# Altium footprint library myConnectors.PcbLib: 58 footprints (part 3 of 4)
Each footprint in its own frame and in the unit in brackets; x right, y up, seen from the top. Pads: shape width x height; smd on the part's side, far side on the other; paste and mask are expansions set on the pad; w line width, h text height; cw(c..) or ccw(c..) is an arc to the next point about the centre after c.
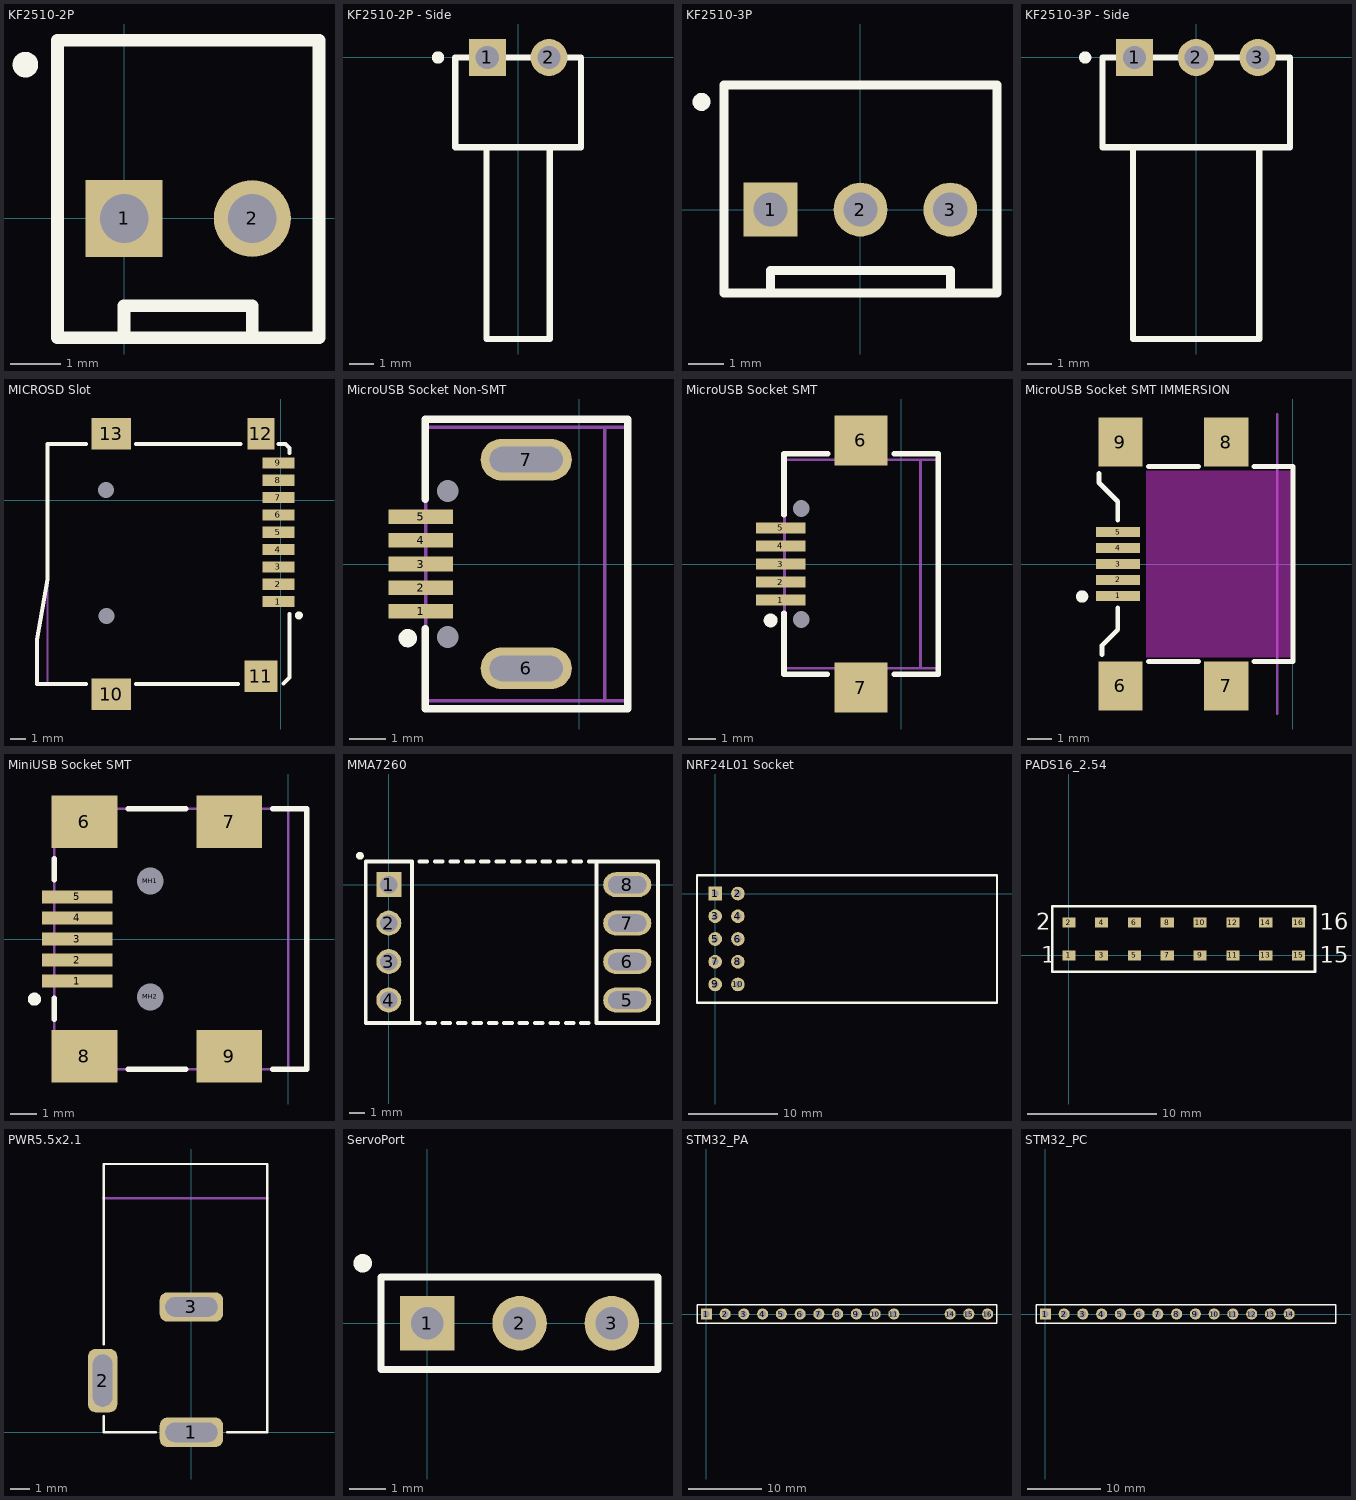
[diagram p2: the footprints below, top view; thin cyan lines are the x and y axes]

## KF2510-2P [mil]
height 470
pads (2):
  rect 60x60 hole 38: 1(0,0)
  round 60 hole 38: 2(100,0)
Top Overlay:
  circle w10: c-77,120 r5
  lines w10: 0,-93 0,-68 100,-68 100,-93 ; -52,-93 152,-93 152,139 -52,139 -52,-93
3D body: height 470, standoff 0, extent -54,-93 152,141

## KF2510-2P - Side [mil]
height 470
pads (2):
  rect 60x60 hole 38: 1(-50,0)
  round 60 hole 38: 2(50,0)
Top Overlay:
  circle w10: c-130,0 r5
  lines w10: -51.18,-145.7 -51.18,-456.7 51.18,-456.7 51.18,-145.7 ; -102,-145.7 102,-145.7 102,0 -102,0 -102,-145.7
3D body: height 470, standoff 0, extent -104.5,-456.7 102,0

## KF2510-3P [mil]
height 470
pads (3):
  rect 60x60 hole 38: 1(-100,0)
  round 60 hole 38: 2(0,0) 3(100,0)
Top Overlay:
  circle w10: c-177,120 r5
  lines w10: -100,-93 -100,-68 100,-68 100,-93 ; -152,-93 -152,139 152,139 152,-93 -152,-93
3D body: height 470, standoff 0, extent -154,-95 155,141

## KF2510-3P - Side [mil]
height 470
pads (3):
  rect 60x60 hole 38: 1(-100,0)
  round 60 hole 38: 2(0,0) 3(100,0)
Top Overlay:
  circle w10: c-180,0 r5
  lines w10: -102.36,-145.7 -102.36,-456.7 102.36,-456.7 102.36,-145.7 ; -152,-145.7 152,-145.7 152,0 -152,0 -152,-145.7
3D body: height 470, standoff 0, extent -154.5,-456.7 154.5,0

## MICROSD Slot [mil] "MicroSD Card Socket"
height 67
pads (15):
  rect 80x28 smd: 1(-6,-253.47) 2(-6,-210.16) 3(-6,-166.85) 4(-6,-123.55) 5(-6,-80.24) 6(-6,-36.93) 7(-6,6.38) 8(-6,49.68) 9(-6,92.99)
  rect 98.43x78.74 smd: 10(-424.01,-485) 13(-424.01,166)
  rect 83x78.74 smd: 11(-50,-439.8)
  rect 67x78.74 smd: 12(-50,166)
  round 23.62 hole 40 unplated: MH1(-436.89,25) MH2(-436,-289.96)
Top Overlay:
  circle w9.84: c45,-288 r4.92
  lines w10: -487,-459 -609,-459 -609,-347.81 -583,-198 -583,140 -487,140 ; -362,-459 -107,-459 ; -362,140 -101,140 ; -6,140 3,140 11,140 21,130 21,118 ; 6,-458 21,-443 21,-284
Mechanical 13:
  lines w3.94: -583,-459 -583,140.88
  text "PCB Edge" at -576,-375 h9.84
3D body: height 67, standoff 0, extent -611,-460 21,140

## MicroUSB Socket Non-SMT [mm] "Connector; USB2.0, Micro, SM; 5 Position; Right Angle"
height 2.4
pads (9):
  rect 1.778x0.4 smd: 1(-4.339,-1.3) 2(-4.339,-0.65) 3(-4.339,0) 4(-4.339,0.65) 5(-4.339,1.3)
  oval 2.5x1.143 hole 2 slot 0.7 at 90 deg: 6(-1.45,-2.86) 7(-1.45,2.86)
  round 0 hole 0.6 unplated: MH1(-3.6,2) MH2(-3.6,-2)
Top Overlay:
  circle w0.25: c-4.697,-2.032 r0.125
  lines w0.2: -4.216,-1.778 -4.216,-3.962 1.321,-3.962 ; -4.216,1.778 -4.216,3.962 1.321,3.962 ; 1.33,-3.962 1.33,3.962
Mechanical 13:
  lines w0.1: 0.7,-3.75 0.7,3.75 ; -4.2,-3.75 -4.2,3.75 1.33,3.75 1.33,-3.75 -4.2,-3.75
  text "PCB Edge" at 0.457,-3.607 h0.25
3D body: height 2.4, standoff 0, extent -4.191,-3.937 1.27,3.937

## MicroUSB Socket SMT [mm] "Connector; USB2.0, Micro, SM; 5 Position; Right Angle"
height 2.4
pads (9):
  rect 1.778x0.4 smd: 1(-4.339,-1.3) 2(-4.339,-0.65) 3(-4.339,0) 4(-4.339,0.65) 5(-4.339,1.3)
  rect 1.9x1.8 smd: 6(-1.45,4.45) 7(-1.45,-4.45)
  round 0 hole 0.6 unplated: MH1(-3.6,2) MH2(-3.6,-2)
Top Overlay:
  circle w0.25: c-4.697,-2.032 r0.125
  lines w0.2: -4.216,-1.778 -4.216,-3.962 -2.667,-3.962 ; -4.216,1.778 -4.216,3.962 -2.642,3.962 ; -0.254,-3.962 1.33,-3.962 1.33,3.962 -0.254,3.962
Mechanical 13:
  lines w0.1: 0.7,-3.75 0.7,3.75 ; -4.2,-3.75 1.33,-3.75 1.33,3.75 -4.2,3.75 -4.2,-3.75
  text "PCB Edge" at 0.457,-3.607 h0.25
3D body: height 2.4, standoff 0, extent -4.191,-3.937 1.27,3.937

## MicroUSB Socket SMT IMMERSION [mm] "Connector; USB2.0, Micro, SM; 5 Position; Right Angle"
height 2.4
pads (9):
  rect 1.778x0.4 smd: 1(-7.1,-1.3) 2(-7.1,-0.65) 3(-7.1,0) 4(-7.1,0.65) 5(-7.1,1.3)
  rect 1.8x2 smd: 6(-7,-4.953) 7(-2.7,-4.953) 8(-2.7,4.953) 9(-7,4.953)
Top Overlay:
  circle w0.25: c-8.558,-1.321 r0.125
  lines w0.2: -7.874,3.683 -7.874,3.302 -7.112,2.54 -7.112,1.778 ; -7.747,-3.683 -7.747,-3.302 -7.112,-2.667 -7.112,-1.778 ; -5.867,-3.962 -3.835,-3.962 ; -5.867,3.962 -3.835,3.962 ; -1.575,-3.962 0.009,-3.962 0.009,3.962 -1.575,3.962
Keep-Out Layer:
  rectangle: -5.971,-3.8 0,3.8
Mechanical 13:
  lines w0.1: -0.621,-6.096 -0.621,6.096 ; 0.009,-3.75 0.009,3.75
  text "PCB Edge" at -0.229,4.166 h0.25
  text "PCB Edge" at -0.229,-6.071 h0.25
3D body: height 2.4, standoff 0, extent -7.874,-3.937 0,3.937

## MiniUSB Socket SMT [mm] "Connector; USB2.0, Type B, SM; 5 Position; Right Angle"
height 3.9
pads (11):
  rect 2.667x0.5 smd: 1(-8.026,-1.6) 2(-8.026,-0.8) 3(-8.026,0) 4(-8.026,0.8) 5(-8.026,1.6)
  rect 2.5x2 smd: 6(-7.75,4.45) 7(-2.25,4.45) 8(-7.75,-4.45) 9(-2.25,-4.45)
  round 0.6 hole 1.016 unplated: MH1(-5.25,2.2) MH2(-5.25,-2.2)
Top Overlay:
  circle w0.25: c-9.652,-2.286 r0.125
  lines w0.2: -8.9,-3.05 -8.9,-2.25 ; -8.9,2.25 -8.9,3.05 ; -6.1,-4.95 -3.9,-4.95 ; -6.1,4.95 -3.9,4.95 ; -0.6,-4.95 0.7,-4.95 0.7,4.95 -0.6,4.95
Mechanical 1:
  lines w0.1: 0,-4.95 0,4.95
  text "PCB Edge" at 0.432,-4.036 h0.25
Mechanical 13:
  lines w0.1: -8.9,-4.95 0.7,-4.95 0.7,4.95 -8.9,4.95 -8.9,-4.95
3D body: height 3.9, standoff 0, extent -8.9,-4.95 0.7,4.95

## MMA7260 [mil]
pads (8):
  rect 65x65 hole 45: 1(0,0)
  round 65 hole 45: 2(0,-100) 3(0,-200) 4(0,-300)
  oval 125x65 hole 45 slot 100 at 0 deg: 5(620,-300) 6(620,-200) 7(620,-100) 8(620,0)
Top Overlay:
  circle w10: c-75,75 r5
  lines w10: 80,-360 60,-360 ; 80,60 100,60 ; 100,-360 120,-360 ; 120,60 140,60 ; 140,-360 160,-360 ; 160,60 180,60 ; 180,-360 200,-360 ; 200,60 220,60 ; 220,-360 240,-360 ; 240,60 260,60 ; 260,-360 280,-360 ; 280,60 300,60 ; 300,-360 320,-360 ; 320,60 340,60 ; 340,-360 360,-360 ; 360,60 380,60 ; 380,-360 400,-360 ; 400,60 420,60 ; 420,-360 440,-360 ; 440,60 460,60 ; 460,-360 480,-360 ; 480,60 500,60 ; 500,-360 520,-360 ; 520,60 540,60 ; 60,-360 -60,-360 -60,60 60,60 60,-360 ; 540,60 700,60 700,-360 540,-360 540,60
3D body: height 100, standoff 0, extent 540,-360 700,60
3D body: height 100, standoff 0, extent -60,-360 60,60

## NRF24L01 Socket [mil] "NRF24L01 Socket"
pads (10):
  rect 60x60 hole 30: 1(0,0)
  round 60 hole 30: 2(100,0) 3(0,-100) 4(100,-100) 5(0,-200) 6(100,-200) 7(0,-300) 8(100,-300) 9(0,-400) 10(100,-400)
Top Overlay:
  lines w10: -80,-480 -80,80 1240,80 1240,-480 -80,-480
3D body: height 10, standoff 0, extent -80,-480 165,80

## PADS16_2.54 [mil] "Surface Soldering Pads"
pads (16):
  rect 40x30 smd: 1(0,0) 2(0,100) 3(100,0) 4(100,100) 5(200,0) 6(200,100) 7(300,0) 8(300,100) 9(400,0) 10(400,100) 11(500,0) 12(500,100) 13(600,0) 14(600,100) 15(700,0) 16(700,100)
Top Overlay:
  lines w7.87: -50,-50 750,-50 750,150 -50,150 -50,-50
  text "16" at 764,78 h50
  text "15" at 764,-22 h50
  text "1" at -84,-22 h50
  text "2" at -100,78 h50
3D body: height 10, standoff 0, extent -50,-50 750,150

## PWR5.5x2.1 [mil]
pads (3):
  rrect50% 130x60 hole 40 slot 107 at 0 deg: 1(0,0) 3(0,257)
  rrect50% 60x130 hole 40 slot 107 at 90 deg: 2(-182,106)
Top Overlay:
  lines w5: -180,33 -180,0 -73,0 ; -180,180 -180,550 155,550 155,0 73,0
Mechanical 13:
  lines w5: -180,480 155,480
3D body: height 408, standoff 0, extent -180,0 155,550

## ServoPort [mm]
pads (3):
  rect 1.5x1.5 hole 0.9: 1(0,0)
  round 1.5 hole 0.9: 2(2.54,0) 3(5.08,0)
Top Overlay:
  circle w0.254: c-1.778,1.651 r0.127
  lines w0.2: -1.27,-1.27 -1.27,1.27 6.35,1.27 6.35,-1.27 -1.27,-1.27
3D body: height 2.54, standoff 0, extent -1.27,-1.27 6.35,1.27

## STM32_PA [mm] "Connector; Header; 16 Position"
pads (14):
  rect 1.5x1.5 hole 0.9: 1(0,0)
  round 1.5 hole 0.9: 2(2.54,0) 3(5.08,0) 4(7.62,0) 5(10.16,0) 6(12.7,0) 7(15.24,0) 8(17.78,0) 9(20.32,0) 10(22.86,0) 11(25.4,0) 14(33.02,0) 15(35.56,0) 16(38.1,0)
Top Overlay:
  lines w0.2: -1.27,-1.27 -1.27,1.27 0.635,1.27 39.37,1.27 39.37,-1.27 -1.27,-1.27
3D body: height 0.25, standoff 0, extent -1.27,-1.27 39.37,1.27

## STM32_PC [mm] "Connector; Header; 16 Position"
pads (14):
  rect 1.5x1.5 hole 0.9: 1(0,0)
  round 1.5 hole 0.9: 2(2.54,0) 3(5.08,0) 4(7.62,0) 5(10.16,0) 6(12.7,0) 7(15.24,0) 8(17.78,0) 9(20.32,0) 10(22.86,0) 11(25.4,0) 12(27.94,0) 13(30.48,0) 14(33.02,0)
Top Overlay:
  lines w0.2: -1.27,-1.27 39.37,-1.27 39.37,1.27 0.635,1.27 -1.27,1.27 -1.27,-1.27
3D body: height 0.25, standoff 0, extent -1.27,-1.27 39.37,1.27